# Altium footprint library Connector_PinSocket_2.54mm.PcbLib: 278 footprints (part 12 of 18)
Each footprint in its own frame and in the unit in brackets; x right, y up, seen from the top. Pads: shape width x height; smd on the part's side, far side on the other; paste and mask are expansions set on the pad; w line width, h text height; cw(c..) or ccw(c..) is an arc to the next point about the centre after c.
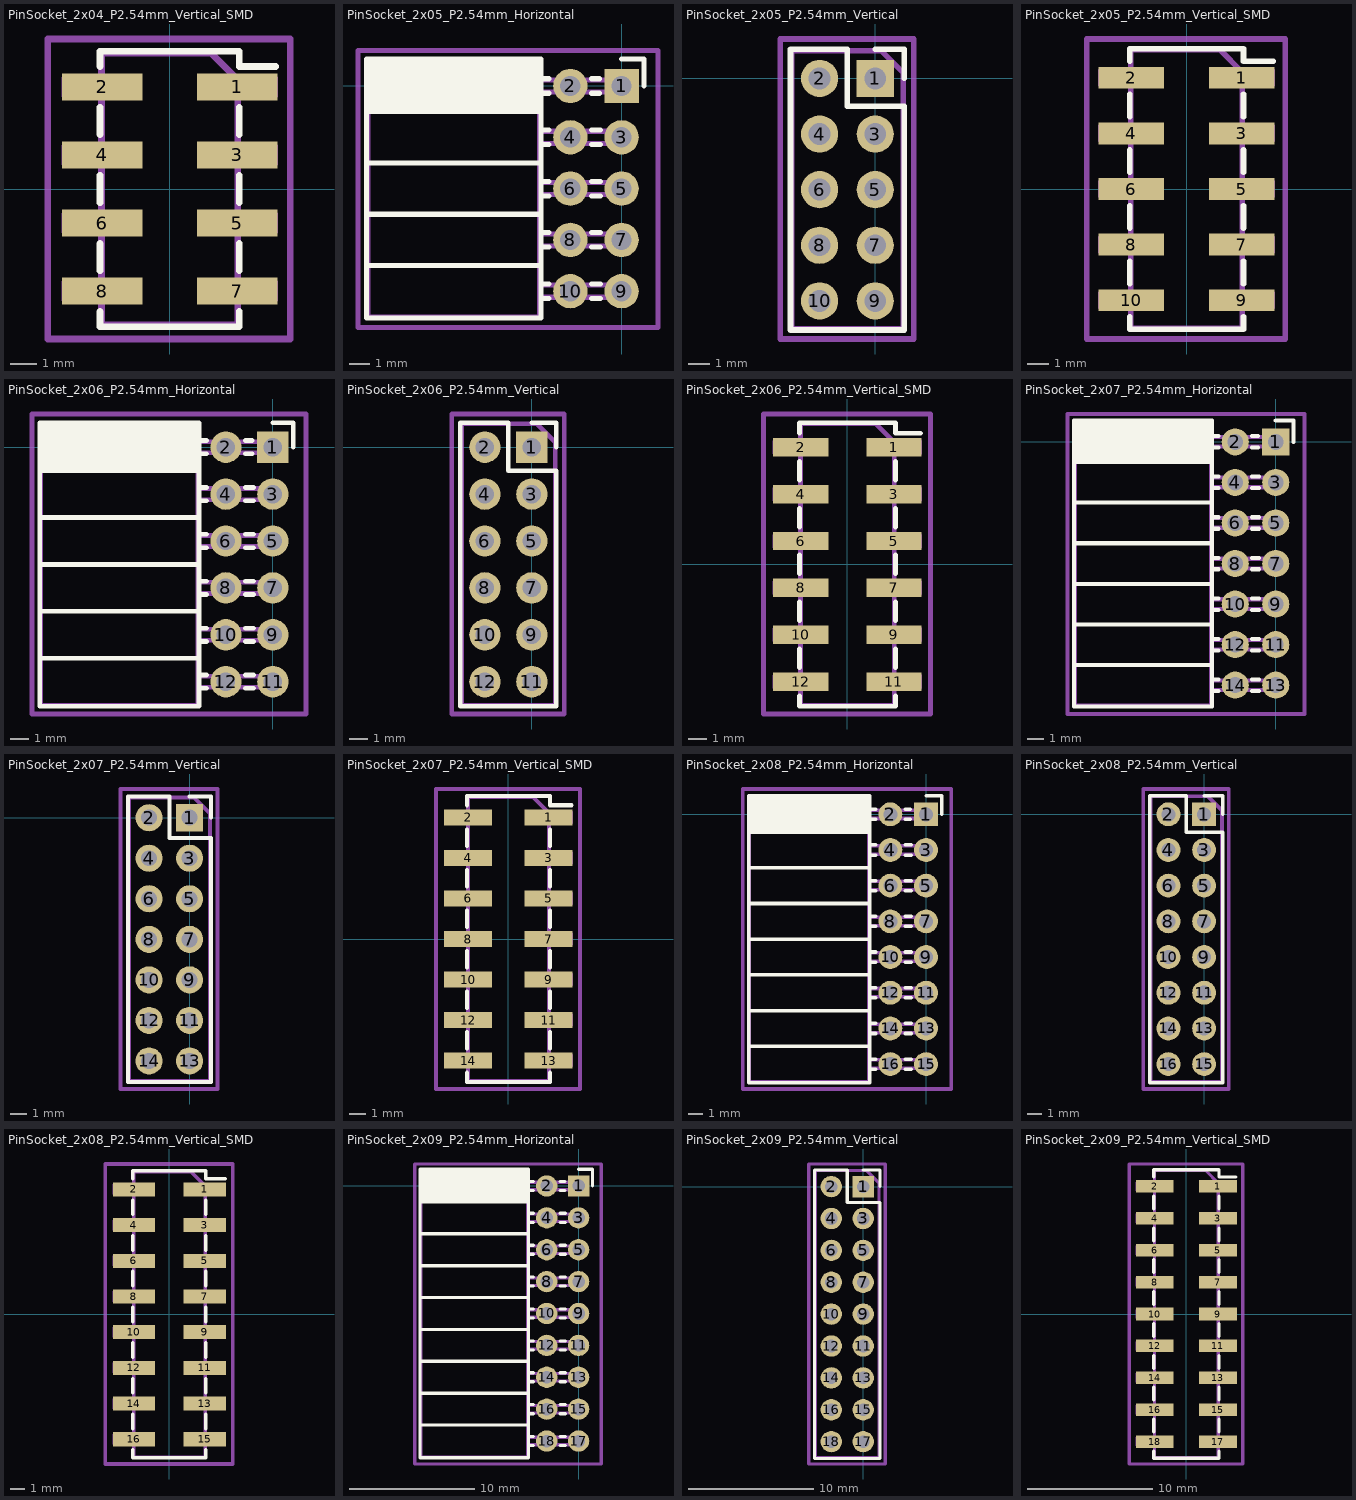
[diagram p11: the footprints below, top view; thin cyan lines are the x and y axes]

## PinSocket_2x04_P2.54mm_Vertical_SMD [mm]
pads (8):
  rect 3x1 smd: 1(2.52,3.81) 2(-2.52,3.81) 3(2.52,1.27) 4(-2.52,1.27) 5(2.52,-1.27) 6(-2.52,-1.27) 7(2.52,-3.81) 8(-2.52,-3.81)
F.SilkS:
  lines w0.254: -2.6,-4.57 -2.6,-5.14 2.6,-5.14 2.6,-4.57 ; -2.6,-3.05 -2.6,-2.03 ; -2.6,-0.51 -2.6,0.51 ; -2.6,2.03 -2.6,3.05 ; -2.6,4.57 -2.6,5.14 2.6,5.14 2.6,4.57 3.96,4.57 ; 2.6,-3.05 2.6,-2.03 ; 2.6,-0.51 2.6,0.51 ; 2.6,2.03 2.6,3.05
Top Assembly:
  lines w0.254: -2.54,-4.13 -3.92,-4.13 -3.92,-3.49 -2.54,-3.49 ; -2.54,-1.59 -3.92,-1.59 -3.92,-0.95 -2.54,-0.95 ; -2.54,0.95 -3.92,0.95 -3.92,1.59 -2.54,1.59 ; -2.54,3.49 -3.92,3.49 -3.92,4.13 -2.54,4.13 ; 2.54,-4.13 3.92,-4.13 3.92,-3.49 2.54,-3.49 ; 2.54,-1.59 3.92,-1.59 3.92,-0.95 2.54,-0.95 ; 2.54,0.95 3.92,0.95 3.92,1.59 2.54,1.59 ; 2.54,3.49 3.92,3.49 3.92,4.13 2.54,4.13 ; -2.54,-5.08 2.54,-5.08 2.54,4.08 1.54,5.08 -2.54,5.08 -2.54,-5.08
  text "'.Designator'" at 0.84,-4.047 h1
Top Courtyard:
  lines w0.254: -4.55,-5.6 4.5,-5.6 4.5,5.6 -4.55,5.6 -4.55,-5.6
Top Designator:
  text ".Designator" at -7.643,-0.508 h1.52

## PinSocket_2x05_P2.54mm_Horizontal [mm]
pads (10):
  rect 1.7x1.7 hole 1: 1(0,0)
  round 1.7 hole 1: 2(-2.54,0) 3(0,-2.54) 4(-2.54,-2.54) 5(0,-5.08) 6(-2.54,-5.08) 7(0,-7.62) 8(-2.54,-7.62) 9(0,-10.16) 10(-2.54,-10.16)
F.SilkS:
  lines w0.254: -12.63,-8.89 -4,-8.89 ; -12.63,-6.35 -4,-6.35 ; -12.63,-3.81 -4,-3.81 ; -12.63,-1.27 -4,-1.27 ; -12.63,-1.152 -4,-1.152 ; -12.63,-1.034 -4,-1.034 ; -12.63,-0.916 -4,-0.916 ; -12.63,-0.798 -4,-0.798 ; -12.63,-0.68 -4,-0.68 ; -12.63,-0.561 -4,-0.561 ; -12.63,-0.443 -4,-0.443 ; -12.63,-0.325 -4,-0.325 ; -12.63,-0.207 -4,-0.207 ; -12.63,-0.089 -4,-0.089 ; -12.63,0.029 -4,0.029 ; -12.63,0.147 -4,0.147 ; -12.63,0.265 -4,0.265 ; -12.63,0.383 -4,0.383 ; -12.63,0.501 -4,0.501 ; -12.63,0.62 -4,0.62 ; -12.63,0.738 -4,0.738 ; -12.63,0.856 -4,0.856 ; -12.63,0.974 -4,0.974 ; -12.63,1.092 -4,1.092 ; -12.63,1.21 -4,1.21 ; -4,-10.52 -3.59,-10.52 ; -4,-9.8 -3.59,-9.8 ; -4,-7.98 -3.59,-7.98 ; -4,-7.26 -3.59,-7.26 ; -4,-5.44 -3.59,-5.44 ; -4,-4.72 -3.59,-4.72 ; -4,-2.9 -3.59,-2.9 ; -4,-2.18 -3.59,-2.18 ; -4,-0.36 -3.59,-0.36 ; -4,0.36 -3.59,0.36 ; -1.49,-10.52 -1.05,-10.52 ; -1.49,-9.8 -1.05,-9.8 ; -1.49,-7.98 -1.05,-7.98 ; -1.49,-7.26 -1.05,-7.26 ; -1.49,-5.44 -1.05,-5.44 ; -1.49,-4.72 -1.05,-4.72 ; -1.49,-2.9 -1.05,-2.9 ; -1.49,-2.18 -1.05,-2.18 ; -1.49,-0.36 -1.11,-0.36 ; -1.49,0.36 -1.11,0.36 ; 0,1.33 1.11,1.33 1.11,0 ; -12.63,-11.49 -4,-11.49 -4,1.33 -12.63,1.33 -12.63,-11.49
Top Assembly:
  lines w0.254: -4.06,-10.46 0,-10.46 0,-9.86 -4.06,-9.86 ; -4.06,-7.92 0,-7.92 0,-7.32 -4.06,-7.32 ; -4.06,-5.38 0,-5.38 0,-4.78 -4.06,-4.78 ; -4.06,-2.84 0,-2.84 0,-2.24 -4.06,-2.24 ; -4.06,-0.3 0,-0.3 0,0.3 -4.06,0.3 ; -4.06,0.3 -4.06,-11.43 -12.57,-11.43 -12.57,1.27 -5.03,1.27 -4.06,0.3
  text "'.Designator'" at -7.475,-9.127 h1
Top Courtyard:
  lines w0.254: -13.05,-11.95 1.8,-11.95 1.8,1.75 -13.05,1.75 -13.05,-11.95
Top Designator:
  text ".Designator" at -13.243,-5.608 h1.52

## PinSocket_2x05_P2.54mm_Vertical [mm]
pads (10):
  rect 1.7x1.7 hole 1: 1(0,0)
  round 1.7 hole 1: 2(-2.54,0) 3(0,-2.54) 4(-2.54,-2.54) 5(0,-5.08) 6(-2.54,-5.08) 7(0,-7.62) 8(-2.54,-7.62) 9(0,-10.16) 10(-2.54,-10.16)
F.SilkS:
  lines w0.254: 0,1.33 1.33,1.33 1.33,0 ; -3.87,-11.49 1.33,-11.49 1.33,-1.27 -1.27,-1.27 -1.27,1.33 -3.87,1.33 -3.87,-11.49
Top Assembly:
  lines w0.254: -3.81,-11.43 1.27,-11.43 1.27,0.27 0.27,1.27 -3.81,1.27 -3.81,-11.43
  text "'.Designator'" at -0.43,-9.127 h1
Top Courtyard:
  lines w0.254: -4.34,-11.9 1.76,-11.9 1.76,1.8 -4.34,1.8 -4.34,-11.9
Top Designator:
  text ".Designator" at -8.908,-5.558 h1.52

## PinSocket_2x05_P2.54mm_Vertical_SMD [mm]
pads (10):
  rect 3x1 smd: 1(2.52,5.08) 2(-2.52,5.08) 3(2.52,2.54) 4(-2.52,2.54) 5(2.52,0) 6(-2.52,0) 7(2.52,-2.54) 8(-2.52,-2.54) 9(2.52,-5.08) 10(-2.52,-5.08)
F.SilkS:
  lines w0.254: -2.6,-5.84 -2.6,-6.41 2.6,-6.41 2.6,-5.84 ; -2.6,-4.32 -2.6,-3.3 ; -2.6,-1.78 -2.6,-0.76 ; -2.6,0.76 -2.6,1.78 ; -2.6,3.3 -2.6,4.32 ; -2.6,5.84 -2.6,6.41 2.6,6.41 2.6,5.84 3.96,5.84 ; 2.6,-4.32 2.6,-3.3 ; 2.6,-1.78 2.6,-0.76 ; 2.6,0.76 2.6,1.78 ; 2.6,3.3 2.6,4.32
Top Assembly:
  lines w0.254: -2.54,-5.4 -3.92,-5.4 -3.92,-4.76 -2.54,-4.76 ; -2.54,-2.86 -3.92,-2.86 -3.92,-2.22 -2.54,-2.22 ; -2.54,-0.32 -3.92,-0.32 -3.92,0.32 -2.54,0.32 ; -2.54,2.22 -3.92,2.22 -3.92,2.86 -2.54,2.86 ; -2.54,4.76 -3.92,4.76 -3.92,5.4 -2.54,5.4 ; 2.54,-5.4 3.92,-5.4 3.92,-4.76 2.54,-4.76 ; 2.54,-2.86 3.92,-2.86 3.92,-2.22 2.54,-2.22 ; 2.54,-0.32 3.92,-0.32 3.92,0.32 2.54,0.32 ; 2.54,2.22 3.92,2.22 3.92,2.86 2.54,2.86 ; 2.54,4.76 3.92,4.76 3.92,5.4 2.54,5.4 ; -2.54,-6.35 2.54,-6.35 2.54,5.35 1.54,6.35 -2.54,6.35 -2.54,-6.35
  text "'.Designator'" at 0.84,-4.047 h1
Top Courtyard:
  lines w0.254: -4.55,-6.85 4.5,-6.85 4.5,6.85 -4.55,6.85 -4.55,-6.85
Top Designator:
  text ".Designator" at -7.643,-0.508 h1.52

## PinSocket_2x06_P2.54mm_Horizontal [mm]
pads (12):
  rect 1.7x1.7 hole 1: 1(0,0)
  round 1.7 hole 1: 2(-2.54,0) 3(0,-2.54) 4(-2.54,-2.54) 5(0,-5.08) 6(-2.54,-5.08) 7(0,-7.62) 8(-2.54,-7.62) 9(0,-10.16) 10(-2.54,-10.16) 11(0,-12.7) 12(-2.54,-12.7)
F.SilkS:
  lines w0.254: -12.63,-11.43 -4,-11.43 ; -12.63,-8.89 -4,-8.89 ; -12.63,-6.35 -4,-6.35 ; -12.63,-3.81 -4,-3.81 ; -12.63,-1.27 -4,-1.27 ; -12.63,-1.152 -4,-1.152 ; -12.63,-1.034 -4,-1.034 ; -12.63,-0.916 -4,-0.916 ; -12.63,-0.798 -4,-0.798 ; -12.63,-0.68 -4,-0.68 ; -12.63,-0.561 -4,-0.561 ; -12.63,-0.443 -4,-0.443 ; -12.63,-0.325 -4,-0.325 ; -12.63,-0.207 -4,-0.207 ; -12.63,-0.089 -4,-0.089 ; -12.63,0.029 -4,0.029 ; -12.63,0.147 -4,0.147 ; -12.63,0.265 -4,0.265 ; -12.63,0.383 -4,0.383 ; -12.63,0.501 -4,0.501 ; -12.63,0.62 -4,0.62 ; -12.63,0.738 -4,0.738 ; -12.63,0.856 -4,0.856 ; -12.63,0.974 -4,0.974 ; -12.63,1.092 -4,1.092 ; -12.63,1.21 -4,1.21 ; -4,-13.06 -3.59,-13.06 ; -4,-12.34 -3.59,-12.34 ; -4,-10.52 -3.59,-10.52 ; -4,-9.8 -3.59,-9.8 ; -4,-7.98 -3.59,-7.98 ; -4,-7.26 -3.59,-7.26 ; -4,-5.44 -3.59,-5.44 ; -4,-4.72 -3.59,-4.72 ; -4,-2.9 -3.59,-2.9 ; -4,-2.18 -3.59,-2.18 ; -4,-0.36 -3.59,-0.36 ; -4,0.36 -3.59,0.36 ; -1.49,-13.06 -1.05,-13.06 ; -1.49,-12.34 -1.05,-12.34 ; -1.49,-10.52 -1.05,-10.52 ; -1.49,-9.8 -1.05,-9.8 ; -1.49,-7.98 -1.05,-7.98 ; -1.49,-7.26 -1.05,-7.26 ; -1.49,-5.44 -1.05,-5.44 ; -1.49,-4.72 -1.05,-4.72 ; -1.49,-2.9 -1.05,-2.9 ; -1.49,-2.18 -1.05,-2.18 ; -1.49,-0.36 -1.11,-0.36 ; -1.49,0.36 -1.11,0.36 ; 0,1.33 1.11,1.33 1.11,0 ; -12.63,-14.03 -4,-14.03 -4,1.33 -12.63,1.33 -12.63,-14.03
Top Assembly:
  lines w0.254: -4.06,-13 0,-13 0,-12.4 -4.06,-12.4 ; -4.06,-10.46 0,-10.46 0,-9.86 -4.06,-9.86 ; -4.06,-7.92 0,-7.92 0,-7.32 -4.06,-7.32 ; -4.06,-5.38 0,-5.38 0,-4.78 -4.06,-4.78 ; -4.06,-2.84 0,-2.84 0,-2.24 -4.06,-2.24 ; -4.06,-0.3 0,-0.3 0,0.3 -4.06,0.3 ; -4.06,0.3 -4.06,-13.97 -12.57,-13.97 -12.57,1.27 -5.03,1.27 -4.06,0.3
  text "'.Designator'" at -7.475,-10.397 h1
Top Courtyard:
  lines w0.254: -13.05,-14.45 1.8,-14.45 1.8,1.8 -13.05,1.8 -13.05,-14.45
Top Designator:
  text ".Designator" at -13.243,-6.833 h1.52

## PinSocket_2x06_P2.54mm_Vertical [mm]
pads (12):
  rect 1.7x1.7 hole 1: 1(0,0)
  round 1.7 hole 1: 2(-2.54,0) 3(0,-2.54) 4(-2.54,-2.54) 5(0,-5.08) 6(-2.54,-5.08) 7(0,-7.62) 8(-2.54,-7.62) 9(0,-10.16) 10(-2.54,-10.16) 11(0,-12.7) 12(-2.54,-12.7)
F.SilkS:
  lines w0.254: 0,1.33 1.33,1.33 1.33,0 ; -3.87,-14.03 1.33,-14.03 1.33,-1.27 -1.27,-1.27 -1.27,1.33 -3.87,1.33 -3.87,-14.03
Top Assembly:
  lines w0.254: -3.81,-13.97 1.27,-13.97 1.27,0.27 0.27,1.27 -3.81,1.27 -3.81,-13.97
  text "'.Designator'" at -0.43,-10.397 h1
Top Courtyard:
  lines w0.254: -4.34,-14.45 1.76,-14.45 1.76,1.8 -4.34,1.8 -4.34,-14.45
Top Designator:
  text ".Designator" at -8.908,-6.833 h1.52

## PinSocket_2x06_P2.54mm_Vertical_SMD [mm]
pads (12):
  rect 3x1 smd: 1(2.52,6.35) 2(-2.52,6.35) 3(2.52,3.81) 4(-2.52,3.81) 5(2.52,1.27) 6(-2.52,1.27) 7(2.52,-1.27) 8(-2.52,-1.27) 9(2.52,-3.81) 10(-2.52,-3.81) 11(2.52,-6.35) 12(-2.52,-6.35)
F.SilkS:
  lines w0.254: -2.6,-7.11 -2.6,-7.68 2.6,-7.68 2.6,-7.11 ; -2.6,-5.59 -2.6,-4.57 ; -2.6,-3.05 -2.6,-2.03 ; -2.6,-0.51 -2.6,0.51 ; -2.6,2.03 -2.6,3.05 ; -2.6,4.57 -2.6,5.59 ; -2.6,7.11 -2.6,7.68 2.6,7.68 2.6,7.11 3.96,7.11 ; 2.6,-5.59 2.6,-4.57 ; 2.6,-3.05 2.6,-2.03 ; 2.6,-0.51 2.6,0.51 ; 2.6,2.03 2.6,3.05 ; 2.6,4.57 2.6,5.59
Top Assembly:
  lines w0.254: -2.54,-6.67 -3.92,-6.67 -3.92,-6.03 -2.54,-6.03 ; -2.54,-4.13 -3.92,-4.13 -3.92,-3.49 -2.54,-3.49 ; -2.54,-1.59 -3.92,-1.59 -3.92,-0.95 -2.54,-0.95 ; -2.54,0.95 -3.92,0.95 -3.92,1.59 -2.54,1.59 ; -2.54,3.49 -3.92,3.49 -3.92,4.13 -2.54,4.13 ; -2.54,6.03 -3.92,6.03 -3.92,6.67 -2.54,6.67 ; 2.54,-6.67 3.92,-6.67 3.92,-6.03 2.54,-6.03 ; 2.54,-4.13 3.92,-4.13 3.92,-3.49 2.54,-3.49 ; 2.54,-1.59 3.92,-1.59 3.92,-0.95 2.54,-0.95 ; 2.54,0.95 3.92,0.95 3.92,1.59 2.54,1.59 ; 2.54,3.49 3.92,3.49 3.92,4.13 2.54,4.13 ; 2.54,6.03 3.92,6.03 3.92,6.67 2.54,6.67 ; -2.54,-7.62 2.54,-7.62 2.54,6.62 1.54,7.62 -2.54,7.62 -2.54,-7.62
  text "'.Designator'" at 0.84,-4.047 h1
Top Courtyard:
  lines w0.254: -4.55,-8.1 4.5,-8.1 4.5,8.15 -4.55,8.15 -4.55,-8.1
Top Designator:
  text ".Designator" at -7.643,-0.483 h1.52

## PinSocket_2x07_P2.54mm_Horizontal [mm]
pads (14):
  rect 1.7x1.7 hole 1: 1(0,0)
  round 1.7 hole 1: 2(-2.54,0) 3(0,-2.54) 4(-2.54,-2.54) 5(0,-5.08) 6(-2.54,-5.08) 7(0,-7.62) 8(-2.54,-7.62) 9(0,-10.16) 10(-2.54,-10.16) 11(0,-12.7) 12(-2.54,-12.7) 13(0,-15.24) 14(-2.54,-15.24)
F.SilkS:
  lines w0.254: -12.63,-13.97 -4,-13.97 ; -12.63,-11.43 -4,-11.43 ; -12.63,-8.89 -4,-8.89 ; -12.63,-6.35 -4,-6.35 ; -12.63,-3.81 -4,-3.81 ; -12.63,-1.27 -4,-1.27 ; -12.63,-1.152 -4,-1.152 ; -12.63,-1.034 -4,-1.034 ; -12.63,-0.916 -4,-0.916 ; -12.63,-0.798 -4,-0.798 ; -12.63,-0.68 -4,-0.68 ; -12.63,-0.561 -4,-0.561 ; -12.63,-0.443 -4,-0.443 ; -12.63,-0.325 -4,-0.325 ; -12.63,-0.207 -4,-0.207 ; -12.63,-0.089 -4,-0.089 ; -12.63,0.029 -4,0.029 ; -12.63,0.147 -4,0.147 ; -12.63,0.265 -4,0.265 ; -12.63,0.383 -4,0.383 ; -12.63,0.501 -4,0.501 ; -12.63,0.62 -4,0.62 ; -12.63,0.738 -4,0.738 ; -12.63,0.856 -4,0.856 ; -12.63,0.974 -4,0.974 ; -12.63,1.092 -4,1.092 ; -12.63,1.21 -4,1.21 ; -4,-15.6 -3.59,-15.6 ; -4,-14.88 -3.59,-14.88 ; -4,-13.06 -3.59,-13.06 ; -4,-12.34 -3.59,-12.34 ; -4,-10.52 -3.59,-10.52 ; -4,-9.8 -3.59,-9.8 ; -4,-7.98 -3.59,-7.98 ; -4,-7.26 -3.59,-7.26 ; -4,-5.44 -3.59,-5.44 ; -4,-4.72 -3.59,-4.72 ; -4,-2.9 -3.59,-2.9 ; -4,-2.18 -3.59,-2.18 ; -4,-0.36 -3.59,-0.36 ; -4,0.36 -3.59,0.36 ; -1.49,-15.6 -1.05,-15.6 ; -1.49,-14.88 -1.05,-14.88 ; -1.49,-13.06 -1.05,-13.06 ; -1.49,-12.34 -1.05,-12.34 ; -1.49,-10.52 -1.05,-10.52 ; -1.49,-9.8 -1.05,-9.8 ; -1.49,-7.98 -1.05,-7.98 ; -1.49,-7.26 -1.05,-7.26 ; -1.49,-5.44 -1.05,-5.44 ; -1.49,-4.72 -1.05,-4.72 ; -1.49,-2.9 -1.05,-2.9 ; -1.49,-2.18 -1.05,-2.18 ; -1.49,-0.36 -1.11,-0.36 ; -1.49,0.36 -1.11,0.36 ; 0,1.33 1.11,1.33 1.11,0 ; -12.63,-16.57 -4,-16.57 -4,1.33 -12.63,1.33 -12.63,-16.57
Top Assembly:
  lines w0.254: -4.06,-15.54 0,-15.54 0,-14.94 -4.06,-14.94 ; -4.06,-13 0,-13 0,-12.4 -4.06,-12.4 ; -4.06,-10.46 0,-10.46 0,-9.86 -4.06,-9.86 ; -4.06,-7.92 0,-7.92 0,-7.32 -4.06,-7.32 ; -4.06,-5.38 0,-5.38 0,-4.78 -4.06,-4.78 ; -4.06,-2.84 0,-2.84 0,-2.24 -4.06,-2.24 ; -4.06,-0.3 0,-0.3 0,0.3 -4.06,0.3 ; -4.06,0.3 -4.06,-16.51 -12.57,-16.51 -12.57,1.27 -5.03,1.27 -4.06,0.3
  text "'.Designator'" at -7.475,-11.667 h1
Top Courtyard:
  lines w0.254: -13.05,-17.05 1.8,-17.05 1.8,1.75 -13.05,1.75 -13.05,-17.05
Top Designator:
  text ".Designator" at -13.243,-8.158 h1.52

## PinSocket_2x07_P2.54mm_Vertical [mm]
pads (14):
  rect 1.7x1.7 hole 1: 1(0,0)
  round 1.7 hole 1: 2(-2.54,0) 3(0,-2.54) 4(-2.54,-2.54) 5(0,-5.08) 6(-2.54,-5.08) 7(0,-7.62) 8(-2.54,-7.62) 9(0,-10.16) 10(-2.54,-10.16) 11(0,-12.7) 12(-2.54,-12.7) 13(0,-15.24) 14(-2.54,-15.24)
F.SilkS:
  lines w0.254: 0,1.33 1.33,1.33 1.33,0 ; -3.87,-16.57 1.33,-16.57 1.33,-1.27 -1.27,-1.27 -1.27,1.33 -3.87,1.33 -3.87,-16.57
Top Assembly:
  lines w0.254: -3.81,-16.51 1.27,-16.51 1.27,0.27 0.27,1.27 -3.81,1.27 -3.81,-16.51
  text "'.Designator'" at -0.43,-11.667 h1
Top Courtyard:
  lines w0.254: -4.34,-17 1.76,-17 1.76,1.8 -4.34,1.8 -4.34,-17
Top Designator:
  text ".Designator" at -8.908,-8.108 h1.52

## PinSocket_2x07_P2.54mm_Vertical_SMD [mm]
pads (14):
  rect 3x1 smd: 1(2.52,7.62) 2(-2.52,7.62) 3(2.52,5.08) 4(-2.52,5.08) 5(2.52,2.54) 6(-2.52,2.54) 7(2.52,0) 8(-2.52,0) 9(2.52,-2.54) 10(-2.52,-2.54) 11(2.52,-5.08) 12(-2.52,-5.08) 13(2.52,-7.62) 14(-2.52,-7.62)
F.SilkS:
  lines w0.254: -2.6,-8.38 -2.6,-8.95 2.6,-8.95 2.6,-8.38 ; -2.6,-6.86 -2.6,-5.84 ; -2.6,-4.32 -2.6,-3.3 ; -2.6,-1.78 -2.6,-0.76 ; -2.6,0.76 -2.6,1.78 ; -2.6,3.3 -2.6,4.32 ; -2.6,5.84 -2.6,6.86 ; -2.6,8.38 -2.6,8.95 2.6,8.95 2.6,8.38 3.96,8.38 ; 2.6,-6.86 2.6,-5.84 ; 2.6,-4.32 2.6,-3.3 ; 2.6,-1.78 2.6,-0.76 ; 2.6,0.76 2.6,1.78 ; 2.6,3.3 2.6,4.32 ; 2.6,5.84 2.6,6.86
Top Assembly:
  lines w0.254: -2.54,-7.94 -3.92,-7.94 -3.92,-7.3 -2.54,-7.3 ; -2.54,-5.4 -3.92,-5.4 -3.92,-4.76 -2.54,-4.76 ; -2.54,-2.86 -3.92,-2.86 -3.92,-2.22 -2.54,-2.22 ; -2.54,-0.32 -3.92,-0.32 -3.92,0.32 -2.54,0.32 ; -2.54,2.22 -3.92,2.22 -3.92,2.86 -2.54,2.86 ; -2.54,4.76 -3.92,4.76 -3.92,5.4 -2.54,5.4 ; -2.54,7.3 -3.92,7.3 -3.92,7.94 -2.54,7.94 ; 2.54,-7.94 3.92,-7.94 3.92,-7.3 2.54,-7.3 ; 2.54,-5.4 3.92,-5.4 3.92,-4.76 2.54,-4.76 ; 2.54,-2.86 3.92,-2.86 3.92,-2.22 2.54,-2.22 ; 2.54,-0.32 3.92,-0.32 3.92,0.32 2.54,0.32 ; 2.54,2.22 3.92,2.22 3.92,2.86 2.54,2.86 ; 2.54,4.76 3.92,4.76 3.92,5.4 2.54,5.4 ; 2.54,7.3 3.92,7.3 3.92,7.94 2.54,7.94 ; -2.54,-8.89 2.54,-8.89 2.54,7.89 1.54,8.89 -2.54,8.89 -2.54,-8.89
  text "'.Designator'" at 0.84,-4.047 h1
Top Courtyard:
  lines w0.254: -4.55,-9.4 4.5,-9.4 4.5,9.4 -4.55,9.4 -4.55,-9.4
Top Designator:
  text ".Designator" at -7.643,-0.508 h1.52

## PinSocket_2x08_P2.54mm_Horizontal [mm]
pads (16):
  rect 1.7x1.7 hole 1: 1(0,0)
  round 1.7 hole 1: 2(-2.54,0) 3(0,-2.54) 4(-2.54,-2.54) 5(0,-5.08) 6(-2.54,-5.08) 7(0,-7.62) 8(-2.54,-7.62) 9(0,-10.16) 10(-2.54,-10.16) 11(0,-12.7) 12(-2.54,-12.7) 13(0,-15.24) 14(-2.54,-15.24) 15(0,-17.78) 16(-2.54,-17.78)
F.SilkS:
  lines w0.254: -12.63,-16.51 -4,-16.51 ; -12.63,-13.97 -4,-13.97 ; -12.63,-11.43 -4,-11.43 ; -12.63,-8.89 -4,-8.89 ; -12.63,-6.35 -4,-6.35 ; -12.63,-3.81 -4,-3.81 ; -12.63,-1.27 -4,-1.27 ; -12.63,-1.152 -4,-1.152 ; -12.63,-1.034 -4,-1.034 ; -12.63,-0.916 -4,-0.916 ; -12.63,-0.798 -4,-0.798 ; -12.63,-0.68 -4,-0.68 ; -12.63,-0.561 -4,-0.561 ; -12.63,-0.443 -4,-0.443 ; -12.63,-0.325 -4,-0.325 ; -12.63,-0.207 -4,-0.207 ; -12.63,-0.089 -4,-0.089 ; -12.63,0.029 -4,0.029 ; -12.63,0.147 -4,0.147 ; -12.63,0.265 -4,0.265 ; -12.63,0.383 -4,0.383 ; -12.63,0.501 -4,0.501 ; -12.63,0.62 -4,0.62 ; -12.63,0.738 -4,0.738 ; -12.63,0.856 -4,0.856 ; -12.63,0.974 -4,0.974 ; -12.63,1.092 -4,1.092 ; -12.63,1.21 -4,1.21 ; -4,-18.14 -3.59,-18.14 ; -4,-17.42 -3.59,-17.42 ; -4,-15.6 -3.59,-15.6 ; -4,-14.88 -3.59,-14.88 ; -4,-13.06 -3.59,-13.06 ; -4,-12.34 -3.59,-12.34 ; -4,-10.52 -3.59,-10.52 ; -4,-9.8 -3.59,-9.8 ; -4,-7.98 -3.59,-7.98 ; -4,-7.26 -3.59,-7.26 ; -4,-5.44 -3.59,-5.44 ; -4,-4.72 -3.59,-4.72 ; -4,-2.9 -3.59,-2.9 ; -4,-2.18 -3.59,-2.18 ; -4,-0.36 -3.59,-0.36 ; -4,0.36 -3.59,0.36 ; -1.49,-18.14 -1.05,-18.14 ; -1.49,-17.42 -1.05,-17.42 ; -1.49,-15.6 -1.05,-15.6 ; -1.49,-14.88 -1.05,-14.88 ; -1.49,-13.06 -1.05,-13.06 ; -1.49,-12.34 -1.05,-12.34 ; -1.49,-10.52 -1.05,-10.52 ; -1.49,-9.8 -1.05,-9.8 ; -1.49,-7.98 -1.05,-7.98 ; -1.49,-7.26 -1.05,-7.26 ; -1.49,-5.44 -1.05,-5.44 ; -1.49,-4.72 -1.05,-4.72 ; -1.49,-2.9 -1.05,-2.9 ; -1.49,-2.18 -1.05,-2.18 ; -1.49,-0.36 -1.11,-0.36 ; -1.49,0.36 -1.11,0.36 ; 0,1.33 1.11,1.33 1.11,0 ; -12.63,-19.11 -4,-19.11 -4,1.33 -12.63,1.33 -12.63,-19.11
Top Assembly:
  lines w0.254: -4.06,-18.08 0,-18.08 0,-17.48 -4.06,-17.48 ; -4.06,-15.54 0,-15.54 0,-14.94 -4.06,-14.94 ; -4.06,-13 0,-13 0,-12.4 -4.06,-12.4 ; -4.06,-10.46 0,-10.46 0,-9.86 -4.06,-9.86 ; -4.06,-7.92 0,-7.92 0,-7.32 -4.06,-7.32 ; -4.06,-5.38 0,-5.38 0,-4.78 -4.06,-4.78 ; -4.06,-2.84 0,-2.84 0,-2.24 -4.06,-2.24 ; -4.06,-0.3 0,-0.3 0,0.3 -4.06,0.3 ; -4.06,0.3 -4.06,-19.05 -12.57,-19.05 -12.57,1.27 -5.03,1.27 -4.06,0.3
  text "'.Designator'" at -7.475,-12.937 h1
Top Courtyard:
  lines w0.254: -13.05,-19.55 1.8,-19.55 1.8,1.8 -13.05,1.8 -13.05,-19.55
Top Designator:
  text ".Designator" at -13.243,-9.383 h1.52

## PinSocket_2x08_P2.54mm_Vertical [mm]
pads (16):
  rect 1.7x1.7 hole 1: 1(0,0)
  round 1.7 hole 1: 2(-2.54,0) 3(0,-2.54) 4(-2.54,-2.54) 5(0,-5.08) 6(-2.54,-5.08) 7(0,-7.62) 8(-2.54,-7.62) 9(0,-10.16) 10(-2.54,-10.16) 11(0,-12.7) 12(-2.54,-12.7) 13(0,-15.24) 14(-2.54,-15.24) 15(0,-17.78) 16(-2.54,-17.78)
F.SilkS:
  lines w0.254: 0,1.33 1.33,1.33 1.33,0 ; -3.87,-19.11 1.33,-19.11 1.33,-1.27 -1.27,-1.27 -1.27,1.33 -3.87,1.33 -3.87,-19.11
Top Assembly:
  lines w0.254: -3.81,-19.05 1.27,-19.05 1.27,0.27 0.27,1.27 -3.81,1.27 -3.81,-19.05
  text "'.Designator'" at -0.43,-12.937 h1
Top Courtyard:
  lines w0.254: -4.34,-19.55 1.76,-19.55 1.76,1.8 -4.34,1.8 -4.34,-19.55
Top Designator:
  text ".Designator" at -8.908,-9.383 h1.52

## PinSocket_2x08_P2.54mm_Vertical_SMD [mm]
pads (16):
  rect 3x1 smd: 1(2.52,8.89) 2(-2.52,8.89) 3(2.52,6.35) 4(-2.52,6.35) 5(2.52,3.81) 6(-2.52,3.81) 7(2.52,1.27) 8(-2.52,1.27) 9(2.52,-1.27) 10(-2.52,-1.27) 11(2.52,-3.81) 12(-2.52,-3.81) 13(2.52,-6.35) 14(-2.52,-6.35) 15(2.52,-8.89) 16(-2.52,-8.89)
F.SilkS:
  lines w0.254: -2.6,-9.65 -2.6,-10.22 2.6,-10.22 2.6,-9.65 ; -2.6,-8.13 -2.6,-7.11 ; -2.6,-5.59 -2.6,-4.57 ; -2.6,-3.05 -2.6,-2.03 ; -2.6,-0.51 -2.6,0.51 ; -2.6,2.03 -2.6,3.05 ; -2.6,4.57 -2.6,5.59 ; -2.6,7.11 -2.6,8.13 ; -2.6,9.65 -2.6,10.22 2.6,10.22 2.6,9.65 3.96,9.65 ; 2.6,-8.13 2.6,-7.11 ; 2.6,-5.59 2.6,-4.57 ; 2.6,-3.05 2.6,-2.03 ; 2.6,-0.51 2.6,0.51 ; 2.6,2.03 2.6,3.05 ; 2.6,4.57 2.6,5.59 ; 2.6,7.11 2.6,8.13
Top Assembly:
  lines w0.254: -2.54,-9.21 -3.92,-9.21 -3.92,-8.57 -2.54,-8.57 ; -2.54,-6.67 -3.92,-6.67 -3.92,-6.03 -2.54,-6.03 ; -2.54,-4.13 -3.92,-4.13 -3.92,-3.49 -2.54,-3.49 ; -2.54,-1.59 -3.92,-1.59 -3.92,-0.95 -2.54,-0.95 ; -2.54,0.95 -3.92,0.95 -3.92,1.59 -2.54,1.59 ; -2.54,3.49 -3.92,3.49 -3.92,4.13 -2.54,4.13 ; -2.54,6.03 -3.92,6.03 -3.92,6.67 -2.54,6.67 ; -2.54,8.57 -3.92,8.57 -3.92,9.21 -2.54,9.21 ; 2.54,-9.21 3.92,-9.21 3.92,-8.57 2.54,-8.57 ; 2.54,-6.67 3.92,-6.67 3.92,-6.03 2.54,-6.03 ; 2.54,-4.13 3.92,-4.13 3.92,-3.49 2.54,-3.49 ; 2.54,-1.59 3.92,-1.59 3.92,-0.95 2.54,-0.95 ; 2.54,0.95 3.92,0.95 3.92,1.59 2.54,1.59 ; 2.54,3.49 3.92,3.49 3.92,4.13 2.54,4.13 ; 2.54,6.03 3.92,6.03 3.92,6.67 2.54,6.67 ; 2.54,8.57 3.92,8.57 3.92,9.21 2.54,9.21 ; -2.54,-10.16 2.54,-10.16 2.54,9.16 1.54,10.16 -2.54,10.16 -2.54,-10.16
  text "'.Designator'" at 0.84,-4.047 h1
Top Courtyard:
  lines w0.254: -4.55,-10.65 4.5,-10.65 4.5,10.7 -4.55,10.7 -4.55,-10.65
Top Designator:
  text ".Designator" at -7.643,-0.483 h1.52

## PinSocket_2x09_P2.54mm_Horizontal [mm]
pads (18):
  rect 1.7x1.7 hole 1: 1(0,0)
  round 1.7 hole 1: 2(-2.54,0) 3(0,-2.54) 4(-2.54,-2.54) 5(0,-5.08) 6(-2.54,-5.08) 7(0,-7.62) 8(-2.54,-7.62) 9(0,-10.16) 10(-2.54,-10.16) 11(0,-12.7) 12(-2.54,-12.7) 13(0,-15.24) 14(-2.54,-15.24) 15(0,-17.78) 16(-2.54,-17.78) 17(0,-20.32) 18(-2.54,-20.32)
F.SilkS:
  lines w0.254: -12.63,-19.05 -4,-19.05 ; -12.63,-16.51 -4,-16.51 ; -12.63,-13.97 -4,-13.97 ; -12.63,-11.43 -4,-11.43 ; -12.63,-8.89 -4,-8.89 ; -12.63,-6.35 -4,-6.35 ; -12.63,-3.81 -4,-3.81 ; -12.63,-1.27 -4,-1.27 ; -12.63,-1.152 -4,-1.152 ; -12.63,-1.034 -4,-1.034 ; -12.63,-0.916 -4,-0.916 ; -12.63,-0.798 -4,-0.798 ; -12.63,-0.68 -4,-0.68 ; -12.63,-0.561 -4,-0.561 ; -12.63,-0.443 -4,-0.443 ; -12.63,-0.325 -4,-0.325 ; -12.63,-0.207 -4,-0.207 ; -12.63,-0.089 -4,-0.089 ; -12.63,0.029 -4,0.029 ; -12.63,0.147 -4,0.147 ; -12.63,0.265 -4,0.265 ; -12.63,0.383 -4,0.383 ; -12.63,0.501 -4,0.501 ; -12.63,0.62 -4,0.62 ; -12.63,0.738 -4,0.738 ; -12.63,0.856 -4,0.856 ; -12.63,0.974 -4,0.974 ; -12.63,1.092 -4,1.092 ; -12.63,1.21 -4,1.21 ; -4,-20.68 -3.59,-20.68 ; -4,-19.96 -3.59,-19.96 ; -4,-18.14 -3.59,-18.14 ; -4,-17.42 -3.59,-17.42 ; -4,-15.6 -3.59,-15.6 ; -4,-14.88 -3.59,-14.88 ; -4,-13.06 -3.59,-13.06 ; -4,-12.34 -3.59,-12.34 ; -4,-10.52 -3.59,-10.52 ; -4,-9.8 -3.59,-9.8 ; -4,-7.98 -3.59,-7.98 ; -4,-7.26 -3.59,-7.26 ; -4,-5.44 -3.59,-5.44 ; -4,-4.72 -3.59,-4.72 ; -4,-2.9 -3.59,-2.9 ; -4,-2.18 -3.59,-2.18 ; -4,-0.36 -3.59,-0.36 ; -4,0.36 -3.59,0.36 ; -1.49,-20.68 -1.05,-20.68 ; -1.49,-19.96 -1.05,-19.96 ; -1.49,-18.14 -1.05,-18.14 ; -1.49,-17.42 -1.05,-17.42 ; -1.49,-15.6 -1.05,-15.6 ; -1.49,-14.88 -1.05,-14.88 ; -1.49,-13.06 -1.05,-13.06 ; -1.49,-12.34 -1.05,-12.34 ; -1.49,-10.52 -1.05,-10.52 ; -1.49,-9.8 -1.05,-9.8 ; -1.49,-7.98 -1.05,-7.98 ; -1.49,-7.26 -1.05,-7.26 ; -1.49,-5.44 -1.05,-5.44 ; -1.49,-4.72 -1.05,-4.72 ; -1.49,-2.9 -1.05,-2.9 ; -1.49,-2.18 -1.05,-2.18 ; -1.49,-0.36 -1.11,-0.36 ; -1.49,0.36 -1.11,0.36 ; 0,1.33 1.11,1.33 1.11,0 ; -12.63,-21.65 -4,-21.65 -4,1.33 -12.63,1.33 -12.63,-21.65
Top Assembly:
  lines w0.254: -4.06,-20.62 0,-20.62 0,-20.02 -4.06,-20.02 ; -4.06,-18.08 0,-18.08 0,-17.48 -4.06,-17.48 ; -4.06,-15.54 0,-15.54 0,-14.94 -4.06,-14.94 ; -4.06,-13 0,-13 0,-12.4 -4.06,-12.4 ; -4.06,-10.46 0,-10.46 0,-9.86 -4.06,-9.86 ; -4.06,-7.92 0,-7.92 0,-7.32 -4.06,-7.32 ; -4.06,-5.38 0,-5.38 0,-4.78 -4.06,-4.78 ; -4.06,-2.84 0,-2.84 0,-2.24 -4.06,-2.24 ; -4.06,-0.3 0,-0.3 0,0.3 -4.06,0.3 ; -4.06,0.3 -4.06,-21.59 -12.57,-21.59 -12.57,1.27 -5.03,1.27 -4.06,0.3
  text "'.Designator'" at -7.475,-14.207 h1
Top Courtyard:
  lines w0.254: -13.05,-22.15 1.8,-22.15 1.8,1.75 -13.05,1.75 -13.05,-22.15
Top Designator:
  text ".Designator" at -13.243,-10.708 h1.52

## PinSocket_2x09_P2.54mm_Vertical [mm]
pads (18):
  rect 1.7x1.7 hole 1: 1(0,0)
  round 1.7 hole 1: 2(-2.54,0) 3(0,-2.54) 4(-2.54,-2.54) 5(0,-5.08) 6(-2.54,-5.08) 7(0,-7.62) 8(-2.54,-7.62) 9(0,-10.16) 10(-2.54,-10.16) 11(0,-12.7) 12(-2.54,-12.7) 13(0,-15.24) 14(-2.54,-15.24) 15(0,-17.78) 16(-2.54,-17.78) 17(0,-20.32) 18(-2.54,-20.32)
F.SilkS:
  lines w0.254: 0,1.33 1.33,1.33 1.33,0 ; -3.87,-21.65 1.33,-21.65 1.33,-1.27 -1.27,-1.27 -1.27,1.33 -3.87,1.33 -3.87,-21.65
Top Assembly:
  lines w0.254: -3.81,-21.59 1.27,-21.59 1.27,0.27 0.27,1.27 -3.81,1.27 -3.81,-21.59
  text "'.Designator'" at -0.43,-14.207 h1
Top Courtyard:
  lines w0.254: -4.34,-22.1 1.76,-22.1 1.76,1.8 -4.34,1.8 -4.34,-22.1
Top Designator:
  text ".Designator" at -8.908,-10.658 h1.52

## PinSocket_2x09_P2.54mm_Vertical_SMD [mm]
pads (18):
  rect 3x1 smd: 1(2.52,10.16) 2(-2.52,10.16) 3(2.52,7.62) 4(-2.52,7.62) 5(2.52,5.08) 6(-2.52,5.08) 7(2.52,2.54) 8(-2.52,2.54) 9(2.52,0) 10(-2.52,0) 11(2.52,-2.54) 12(-2.52,-2.54) 13(2.52,-5.08) 14(-2.52,-5.08) 15(2.52,-7.62) 16(-2.52,-7.62) 17(2.52,-10.16) 18(-2.52,-10.16)
F.SilkS:
  lines w0.254: -2.6,-10.92 -2.6,-11.49 2.6,-11.49 2.6,-10.92 ; -2.6,-9.4 -2.6,-8.38 ; -2.6,-6.86 -2.6,-5.84 ; -2.6,-4.32 -2.6,-3.3 ; -2.6,-1.78 -2.6,-0.76 ; -2.6,0.76 -2.6,1.78 ; -2.6,3.3 -2.6,4.32 ; -2.6,5.84 -2.6,6.86 ; -2.6,8.38 -2.6,9.4 ; -2.6,10.92 -2.6,11.49 2.6,11.49 2.6,10.92 3.96,10.92 ; 2.6,-9.4 2.6,-8.38 ; 2.6,-6.86 2.6,-5.84 ; 2.6,-4.32 2.6,-3.3 ; 2.6,-1.78 2.6,-0.76 ; 2.6,0.76 2.6,1.78 ; 2.6,3.3 2.6,4.32 ; 2.6,5.84 2.6,6.86 ; 2.6,8.38 2.6,9.4
Top Assembly:
  lines w0.254: -2.54,-10.48 -3.92,-10.48 -3.92,-9.84 -2.54,-9.84 ; -2.54,-7.94 -3.92,-7.94 -3.92,-7.3 -2.54,-7.3 ; -2.54,-5.4 -3.92,-5.4 -3.92,-4.76 -2.54,-4.76 ; -2.54,-2.86 -3.92,-2.86 -3.92,-2.22 -2.54,-2.22 ; -2.54,-0.32 -3.92,-0.32 -3.92,0.32 -2.54,0.32 ; -2.54,2.22 -3.92,2.22 -3.92,2.86 -2.54,2.86 ; -2.54,4.76 -3.92,4.76 -3.92,5.4 -2.54,5.4 ; -2.54,7.3 -3.92,7.3 -3.92,7.94 -2.54,7.94 ; -2.54,9.84 -3.92,9.84 -3.92,10.48 -2.54,10.48 ; 2.54,-10.48 3.92,-10.48 3.92,-9.84 2.54,-9.84 ; 2.54,-7.94 3.92,-7.94 3.92,-7.3 2.54,-7.3 ; 2.54,-5.4 3.92,-5.4 3.92,-4.76 2.54,-4.76 ; 2.54,-2.86 3.92,-2.86 3.92,-2.22 2.54,-2.22 ; 2.54,-0.32 3.92,-0.32 3.92,0.32 2.54,0.32 ; 2.54,2.22 3.92,2.22 3.92,2.86 2.54,2.86 ; 2.54,4.76 3.92,4.76 3.92,5.4 2.54,5.4 ; 2.54,7.3 3.92,7.3 3.92,7.94 2.54,7.94 ; 2.54,9.84 3.92,9.84 3.92,10.48 2.54,10.48 ; -2.54,-11.43 2.54,-11.43 2.54,10.43 1.54,11.43 -2.54,11.43 -2.54,-11.43
  text "'.Designator'" at 0.84,-4.047 h1
Top Courtyard:
  lines w0.254: -4.55,-11.95 4.5,-11.95 4.5,11.95 -4.55,11.95 -4.55,-11.95
Top Designator:
  text ".Designator" at -7.643,-0.508 h1.52